# Altium schematic symbol library SCH - MCU - ATSAM - MICROCHIP SAM9X60D5M-CU BGA233.SchLib: 1 symbol
Pins are listed as number, name and electrical type; pins without a type are passive.

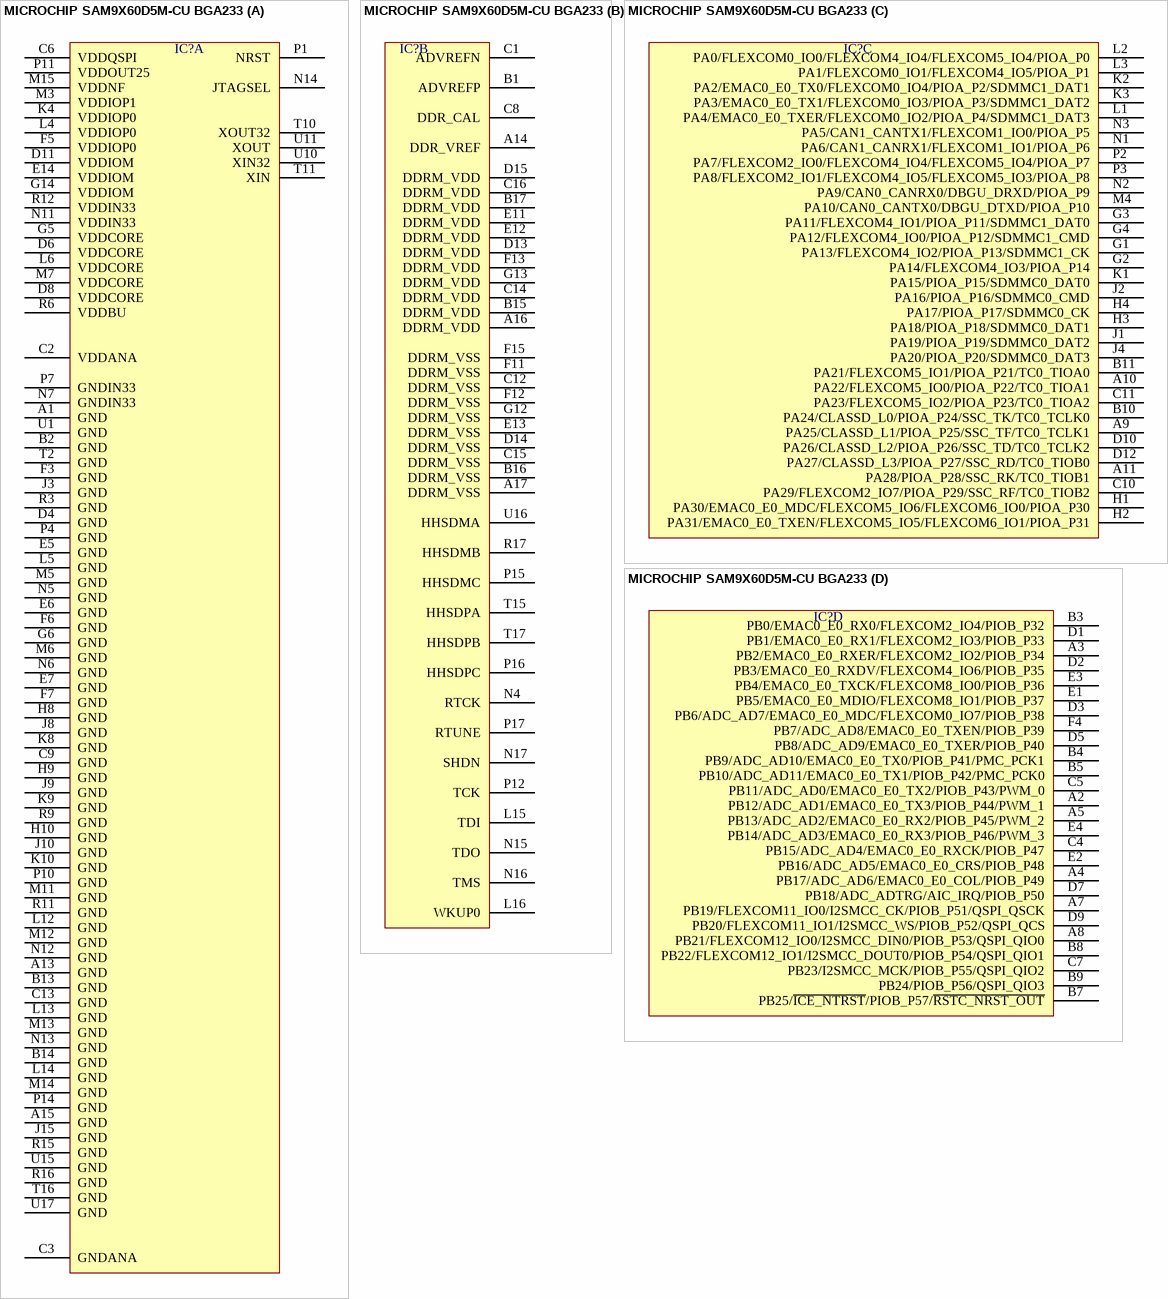
[diagram p0: symbol MICROCHIP SAM9X60D5M-CU BGA233]

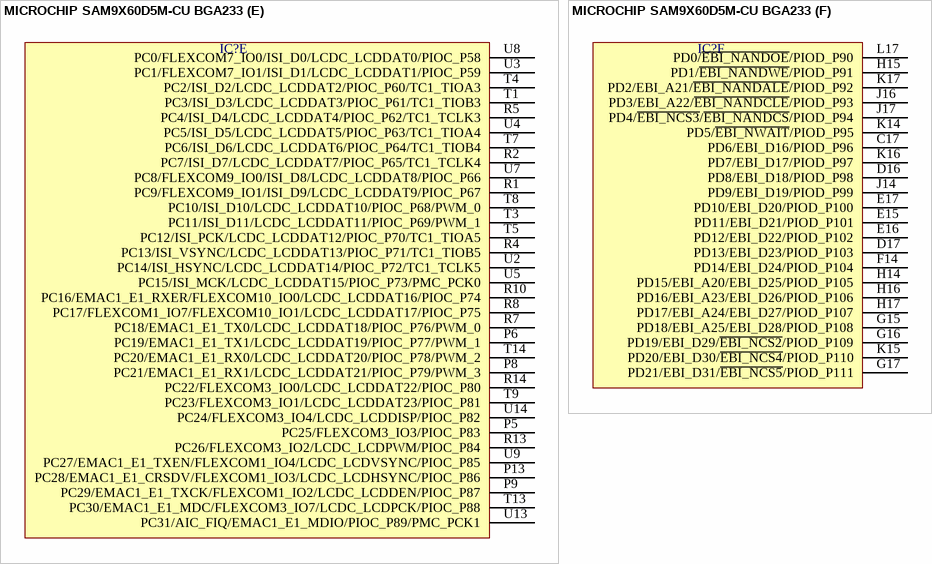
[diagram p1: symbol MICROCHIP SAM9X60D5M-CU BGA233]

## MICROCHIP SAM9X60D5M-CU BGA233
designator IC?  (value not drawn)
part A pins: A1 GND, A13 GND, A15 GND, B2 GND, B13 GND, B14 GND, C2 VDDANA, C3 GNDANA, C6 VDDQSPI, C9 GND, C13 GND, D4 GND, D6 VDDCORE, D8 VDDCORE, D11 VDDIOM, E5 GND, E6 GND, E7 GND, E14 VDDIOM, F3 GND, F5 VDDIOP0, F6 GND, F7 GND, G5 VDDCORE, G6 GND, G14 VDDIOM, H8 GND, H9 GND, H10 GND, J3 GND, J8 GND, J9 GND, J10 GND, J15 GND, K4 VDDIOP0, K8 GND, K9 GND, K10 GND, L4 VDDIOP0, L5 GND, L6 VDDCORE, L12 GND, L13 GND, L14 GND, M3 VDDIOP1, M5 GND, M6 GND, M7 VDDCORE, M11 GND, M12 GND, M13 GND, M14 GND, M15 VDDNF, N5 GND, N6 GND, N7 GNDIN33, N11 VDDIN33, N12 GND, N13 GND, N14 JTAGSEL, P1 NRST, P4 GND, P7 GNDIN33, P10 GND, P11 VDDOUT25, P14 GND, R3 GND, R6 VDDBU, R9 GND, R11 GND, R12 VDDIN33, R15 GND, R16 GND, T2 GND, T10 XOUT32, T11 XIN, T16 GND, U1 GND, U10 XIN32, U11 XOUT, U15 GND, U17 GND
part B pins: A14 DDR_VREF, A16 DDRM_VDD, A17 DDRM_VSS, B1 ADVREFP, B15 DDRM_VDD, B16 DDRM_VSS, B17 DDRM_VDD, C1 ADVREFN, C8 DDR_CAL, C12 DDRM_VSS, C14 DDRM_VDD, C15 DDRM_VSS, C16 DDRM_VDD, D13 DDRM_VDD, D14 DDRM_VSS, D15 DDRM_VDD, E11 DDRM_VDD, E12 DDRM_VDD, E13 DDRM_VSS, F11 DDRM_VSS, F12 DDRM_VSS, F13 DDRM_VDD, F15 DDRM_VSS, G12 DDRM_VSS, G13 DDRM_VDD, L15 TDI, L16 WKUP0, N4 RTCK, N15 TDO, N16 TMS, N17 SHDN, P12 TCK, P15 HHSDMC, P16 HHSDPC, P17 RTUNE, R17 HHSDMB, T15 HHSDPA, T17 HHSDPB, U16 HHSDMA
part C pins: A9 PA25/CLASSD_L1/PIOA_P25/SSC_TF/TC0_TCLK1, A10 PA22/FLEXCOM5_IO0/PIOA_P22/TC0_TIOA1, A11 PA28/PIOA_P28/SSC_RK/TC0_TIOB1, B10 PA24/CLASSD_L0/PIOA_P24/SSC_TK/TC0_TCLK0, B11 PA21/FLEXCOM5_IO1/PIOA_P21/TC0_TIOA0, C10 PA29/FLEXCOM2_IO7/PIOA_P29/SSC_RF/TC0_TIOB2, C11 PA23/FLEXCOM5_IO2/PIOA_P23/TC0_TIOA2, D10 PA26/CLASSD_L2/PIOA_P26/SSC_TD/TC0_TCLK2, D12 PA27/CLASSD_L3/PIOA_P27/SSC_RD/TC0_TIOB0, G1 PA13/FLEXCOM4_IO2/PIOA_P13/SDMMC1_CK, G2 PA14/FLEXCOM4_IO3/PIOA_P14, G3 PA11/FLEXCOM4_IO1/PIOA_P11/SDMMC1_DAT0, G4 PA12/FLEXCOM4_IO0/PIOA_P12/SDMMC1_CMD, H1 PA30/EMAC0_E0_MDC/FLEXCOM5_IO6/FLEXCOM6_IO0/PIOA_P30, H2 PA31/EMAC0_E0_TXEN/FLEXCOM5_IO5/FLEXCOM6_IO1/PIOA_P31, H3 PA18/PIOA_P18/SDMMC0_DAT1, H4 PA17/PIOA_P17/SDMMC0_CK, J1 PA19/PIOA_P19/SDMMC0_DAT2, J2 PA16/PIOA_P16/SDMMC0_CMD, J4 PA20/PIOA_P20/SDMMC0_DAT3, K1 PA15/PIOA_P15/SDMMC0_DAT0, K2 PA2/EMAC0_E0_TX0/FLEXCOM0_IO4/PIOA_P2/SDMMC1_DAT1, K3 PA3/EMAC0_E0_TX1/FLEXCOM0_IO3/PIOA_P3/SDMMC1_DAT2, L1 PA4/EMAC0_E0_TXER/FLEXCOM0_IO2/PIOA_P4/SDMMC1_DAT3, L2 PA0/FLEXCOM0_IO0/FLEXCOM4_IO4/FLEXCOM5_IO4/PIOA_P0, L3 PA1/FLEXCOM0_IO1/FLEXCOM4_IO5/PIOA_P1, M4 PA10/CAN0_CANTX0/DBGU_DTXD/PIOA_P10, N1 PA6/CAN1_CANRX1/FLEXCOM1_IO1/PIOA_P6, N2 PA9/CAN0_CANRX0/DBGU_DRXD/PIOA_P9, N3 PA5/CAN1_CANTX1/FLEXCOM1_IO0/PIOA_P5, P2 PA7/FLEXCOM2_IO0/FLEXCOM4_IO4/FLEXCOM5_IO4/PIOA_P7, P3 PA8/FLEXCOM2_IO1/FLEXCOM4_IO5/FLEXCOM5_IO3/PIOA_P8
part D pins: A2 PB12/ADC_AD1/EMAC0_E0_TX3/PIOB_P44/PWM_1, A3 PB2/EMAC0_E0_RXER/FLEXCOM2_IO2/PIOB_P34, A4 PB17/ADC_AD6/EMAC0_E0_COL/PIOB_P49, A5 PB13/ADC_AD2/EMAC0_E0_RX2/PIOB_P45/PWM_2, A7 PB19/FLEXCOM11_IO0/I2SMCC_CK/PIOB_P51/QSPI_QSCK, A8 PB21/FLEXCOM12_IO0/I2SMCC_DIN0/PIOB_P53/QSPI_QIO0, B3 PB0/EMAC0_E0_RX0/FLEXCOM2_IO4/PIOB_P32, B4 PB9/ADC_AD10/EMAC0_E0_TX0/PIOB_P41/PMC_PCK1, B5 PB10/ADC_AD11/EMAC0_E0_TX1/PIOB_P42/PMC_PCK0, B7 PB25/~{ICE_NTRST}/PIOB_P57/~{RSTC_NRST_OUT}, B8 PB22/FLEXCOM12_IO1/I2SMCC_DOUT0/PIOB_P54/QSPI_QIO1, B9 PB24/PIOB_P56/QSPI_QIO3, C4 PB15/ADC_AD4/EMAC0_E0_RXCK/PIOB_P47, C5 PB11/ADC_AD0/EMAC0_E0_TX2/PIOB_P43/PWM_0, C7 PB23/I2SMCC_MCK/PIOB_P55/QSPI_QIO2, D1 PB1/EMAC0_E0_RX1/FLEXCOM2_IO3/PIOB_P33, D2 PB3/EMAC0_E0_RXDV/FLEXCOM4_IO6/PIOB_P35, D3 PB6/ADC_AD7/EMAC0_E0_MDC/FLEXCOM0_IO7/PIOB_P38, D5 PB8/ADC_AD9/EMAC0_E0_TXER/PIOB_P40, D7 PB18/ADC_ADTRG/AIC_IRQ/PIOB_P50, D9 PB20/FLEXCOM11_IO1/I2SMCC_WS/PIOB_P52/QSPI_QCS, E1 PB5/EMAC0_E0_MDIO/FLEXCOM8_IO1/PIOB_P37, E2 PB16/ADC_AD5/EMAC0_E0_CRS/PIOB_P48, E3 PB4/EMAC0_E0_TXCK/FLEXCOM8_IO0/PIOB_P36, E4 PB14/ADC_AD3/EMAC0_E0_RX3/PIOB_P46/PWM_3, F4 PB7/ADC_AD8/EMAC0_E0_TXEN/PIOB_P39
part E pins: P5 PC25/FLEXCOM3_IO3/PIOC_P83, P6 PC19/EMAC1_E1_TX1/LCDC_LCDDAT19/PIOC_P77/PWM_1, P8 PC21/EMAC1_E1_RX1/LCDC_LCDDAT21/PIOC_P79/PWM_3, P9 PC29/EMAC1_E1_TXCK/FLEXCOM1_IO2/LCDC_LCDDEN/PIOC_P87, P13 PC28/EMAC1_E1_CRSDV/FLEXCOM1_IO3/LCDC_LCDHSYNC/PIOC_P86, R1 PC9/FLEXCOM9_IO1/ISI_D9/LCDC_LCDDAT9/PIOC_P67, R2 PC7/ISI_D7/LCDC_LCDDAT7/PIOC_P65/TC1_TCLK4, R4 PC13/ISI_VSYNC/LCDC_LCDDAT13/PIOC_P71/TC1_TIOB5, R5 PC4/ISI_D4/LCDC_LCDDAT4/PIOC_P62/TC1_TCLK3, R7 PC18/EMAC1_E1_TX0/LCDC_LCDDAT18/PIOC_P76/PWM_0, R8 PC17/FLEXCOM1_IO7/FLEXCOM10_IO1/LCDC_LCDDAT17/PIOC_P75, R10 PC16/EMAC1_E1_RXER/FLEXCOM10_IO0/LCDC_LCDDAT16/PIOC_P74, R13 PC26/FLEXCOM3_IO2/LCDC_LCDPWM/PIOC_P84, R14 PC22/FLEXCOM3_IO0/LCDC_LCDDAT22/PIOC_P80, T1 PC3/ISI_D3/LCDC_LCDDAT3/PIOC_P61/TC1_TIOB3, T3 PC11/ISI_D11/LCDC_LCDDAT11/PIOC_P69/PWM_1, T4 PC2/ISI_D2/LCDC_LCDDAT2/PIOC_P60/TC1_TIOA3, T5 PC12/ISI_PCK/LCDC_LCDDAT12/PIOC_P70/TC1_TIOA5, T7 PC6/ISI_D6/LCDC_LCDDAT6/PIOC_P64/TC1_TIOB4, T8 PC10/ISI_D10/LCDC_LCDDAT10/PIOC_P68/PWM_0, T9 PC23/FLEXCOM3_IO1/LCDC_LCDDAT23/PIOC_P81, T13 PC30/EMAC1_E1_MDC/FLEXCOM3_IO7/LCDC_LCDPCK/PIOC_P88, T14 PC20/EMAC1_E1_RX0/LCDC_LCDDAT20/PIOC_P78/PWM_2, U2 PC14/ISI_HSYNC/LCDC_LCDDAT14/PIOC_P72/TC1_TCLK5, U3 PC1/FLEXCOM7_IO1/ISI_D1/LCDC_LCDDAT1/PIOC_P59, U4 PC5/ISI_D5/LCDC_LCDDAT5/PIOC_P63/TC1_TIOA4, U5 PC15/ISI_MCK/LCDC_LCDDAT15/PIOC_P73/PMC_PCK0, U7 PC8/FLEXCOM9_IO0/ISI_D8/LCDC_LCDDAT8/PIOC_P66, U8 PC0/FLEXCOM7_IO0/ISI_D0/LCDC_LCDDAT0/PIOC_P58, U9 PC27/EMAC1_E1_TXEN/FLEXCOM1_IO4/LCDC_LCDVSYNC/PIOC_P85, U13 PC31/AIC_FIQ/EMAC1_E1_MDIO/PIOC_P89/PMC_PCK1, U14 PC24/FLEXCOM3_IO4/LCDC_LCDDISP/PIOC_P82
part F pins: C17 PD6/EBI_D16/PIOD_P96, D16 PD8/EBI_D18/PIOD_P98, D17 PD13/EBI_D23/PIOD_P103, E15 PD11/EBI_D21/PIOD_P101, E16 PD12/EBI_D22/PIOD_P102, E17 PD10/EBI_D20/PIOD_P100, F14 PD14/EBI_D24/PIOD_P104, G15 PD18/EBI_A25/EBI_D28/PIOD_P108, G16 PD19/EBI_D29/~{EBI_NCS2}/PIOD_P109, G17 PD21/EBI_D31/~{EBI_NCS5}/PIOD_P111, H14 PD15/EBI_A20/EBI_D25/PIOD_P105, H15 PD1/~{EBI_NANDWE}/PIOD_P91, H16 PD16/EBI_A23/EBI_D26/PIOD_P106, H17 PD17/EBI_A24/EBI_D27/PIOD_P107, J14 PD9/EBI_D19/PIOD_P99, J16 PD3/EBI_A22/~{EBI_NANDCLE}/PIOD_P93, J17 PD4/~{EBI_NCS3}/~{EBI_NANDCS}/PIOD_P94, K14 PD5/~{EBI_NWAIT}/PIOD_P95, K15 PD20/EBI_D30/~{EBI_NCS4}/PIOD_P110, K16 PD7/EBI_D17/PIOD_P97, K17 PD2/EBI_A21/~{EBI_NANDALE}/PIOD_P92, L17 PD0/~{EBI_NANDOE}/PIOD_P90